# EAGLE library part ADE-18W+ (library My_Library_RADAR)
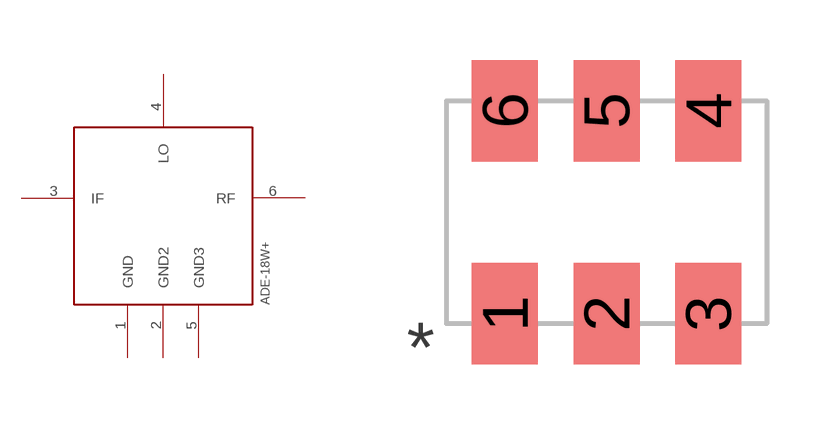
[diagram p13: symbol with the pads of ADE-18W+; footprint ADE-18W+]

Designator prefix -

## ADE-18W+  [ADE-18W+]
1  GND  pas
2  GND2  pas
3  IF  pas
4  LO  pas
5  GND3  pas
6  RF  pas

## Footprint ADE-18W+ (pad centres in mm)
smd 1.65 x 2.54: 1 -2.54,-2.54; 2 0,-2.54; 3 2.54,-2.54; 4 2.54,2.54; 5 0,2.54; 6 -2.54,2.54